# Altium schematic symbol library SCH - SENSOR - CURRENT - TI INA193AIDBVR.SCHLIB: 1 symbol
Pins are listed as number, name and electrical type; pins without a type are passive.

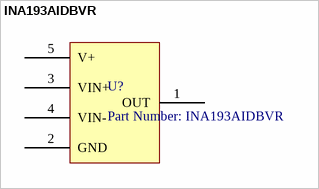
[diagram p0: symbol INA193AIDBVR]

## INA193AIDBVR
designator U?, comment Part Number: INA193AIDBVR
No Description Available; Built_By: EMA_UL_Team; Vendor: Texas Instruments; Manufacturer_Part_Number: INA193AIDBVR; Copyright: Copyright (C) 2018 Accelerated Designs. All rights reserved; RefDes: RefDes; Type: DEV; Value: Value
pins: 1 OUT, 2 GND (power), 3 VIN+ (power), 4 VIN- (power), 5 V+ (power)